# Altium schematic symbol library TPS22860DBVR.SchLib: 1 symbol
Pins are listed as number, name and electrical type; pins without a type are passive.

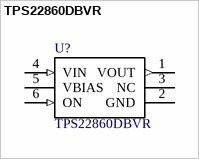
[diagram p0: symbol TPS22860DBVR]

## TPS22860DBVR
designator U?
TPS22860 Ultra-low leakage load switch 6-SOT-23 -40 to 85; MF: Texas Instruments; MP: TPS22860DBVR; SnapEDA_Link: https://www.snapeda.com/parts/TPS22860DBVR/Texas%20Instruments/view-part/?ref=snap; Package: SOT-23 Texas Instruments; Digi-Key_Part_Number: 296-43982-1-ND; Digi-Key_Purchase_URL: https://www.digikey.com/product-detail/en/texas-instruments/TPS22860DBVR/296-43982-1-ND/5973206?utm_source=snapeda&utm_medium=aggregator&utm_campaign=symbol; Value: *
footprint SOT95P280X145-6N
pins: 1 VOUT (out), 2 GND, 3 NC, 4 VIN (in), 5 VBIAS (power), 6 ON (in)